# Altium footprint library Transistor-Fotprint.PcbLib: 27 footprints (part 2 of 2)
Each footprint in its own frame and in the unit in brackets; x right, y up, seen from the top. Pads: shape width x height; smd on the part's side, far side on the other; paste and mask are expansions set on the pad; w line width, h text height; cw(c..) or ccw(c..) is an arc to the next point about the centre after c.
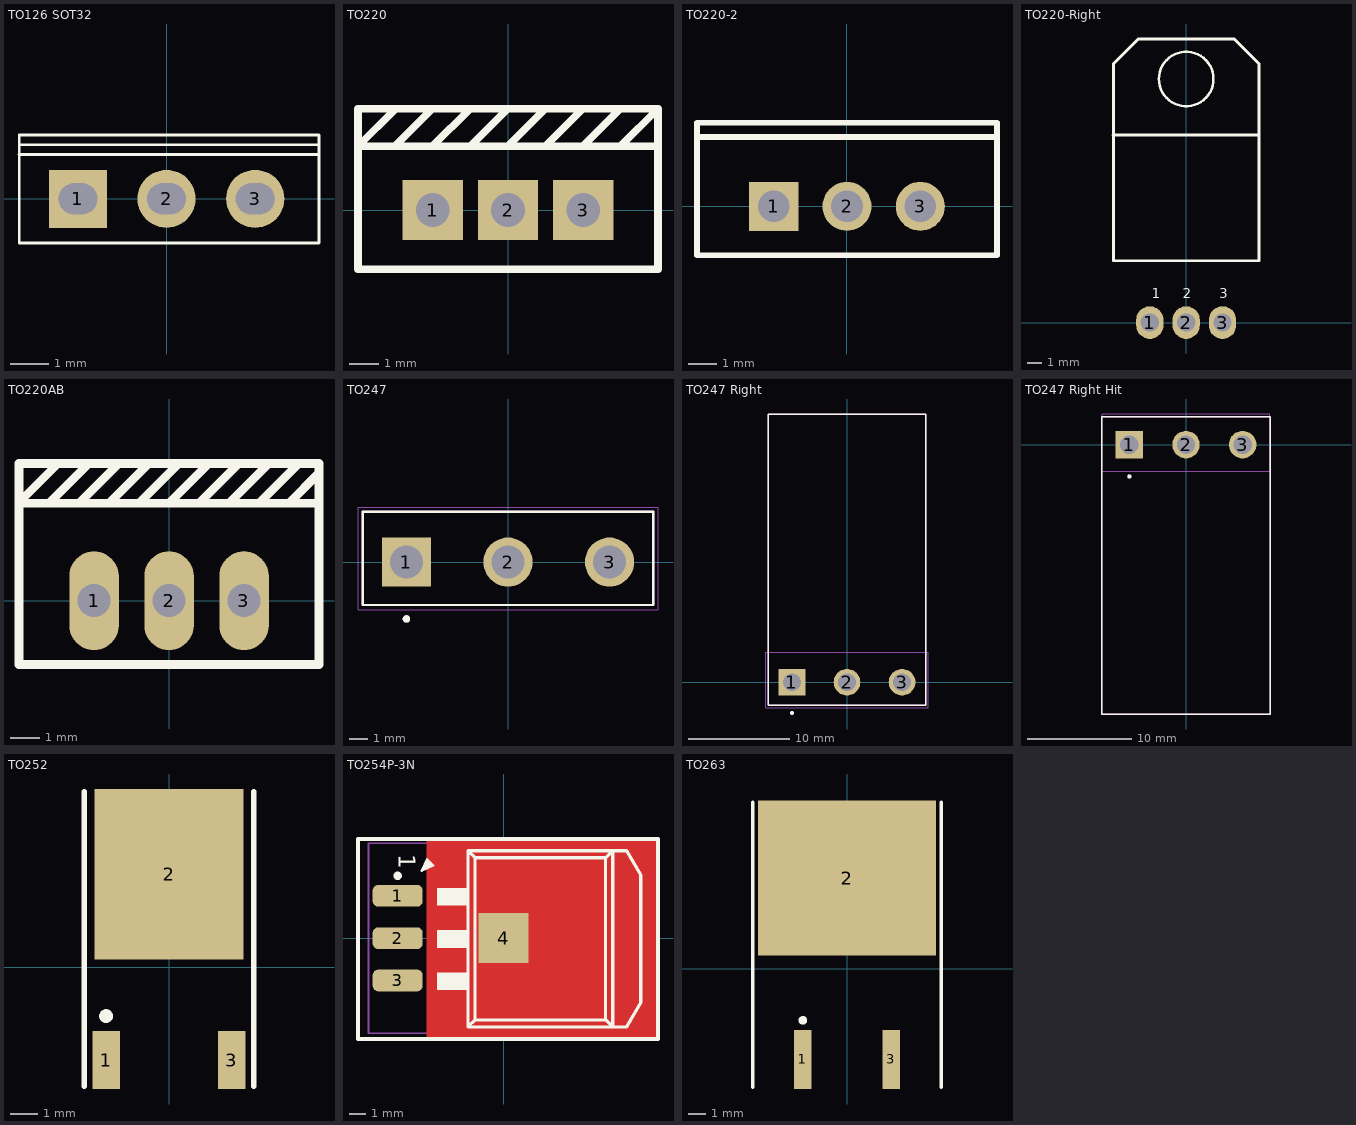
[diagram p1: the footprints below, top view; thin cyan lines are the x and y axes]

## TO126 SOT32 [mm]
height 16
pads (3):
  rect 1.5x1.5 hole 0.8 slot 1 at 0 deg: 1(-2.29,0)
  round 1.5 hole 0.8 slot 1 at 0 deg: 2(0,0) 3(2.29,0)
Top Overlay:
  lines w0.07: -3.81,1.143 3.937,1.143 3.937,1.651 ; -3.8,1.397 3.937,1.397 ; 3.937,1.651 -3.8,1.651 -3.8,-1.143 3.937,-1.143 3.937,1.651
3D body "User Library-TO-126 (SOT32) Gold PCB.STEP": height 13.19, standoff -3.54, extent -3.8,-1 3.8,1.55

## TO220 [mil]
pads (3):
  rect 80x80 hole 45: 1(-100,0) 2(0,0) 3(100,0)
Top Overlay:
  lines w10: -150.5,85 -100.5,135 ; -149.5,135 -199.5,85 ; -100.5,85 -50.5,135 ; -50.5,85 -0.5,135 ; -0.5,85 49.5,135 ; 49.5,85 99.5,135 ; 99.5,85 149.5,135 ; 149.5,85 199.5,135 ; -199.5,85 -199.5,-78.74 199.5,-78.74 199.5,85 ; -199.5,85 199.5,85 ; -199.5,85 -199.5,135 199.5,135 ; 199.5,85 199.5,135
3D body "User Library-TO-220-4.STEP": height 789.77, standoff -344.09, extent -200.78,-68.89 200.79,108.27

## TO220-2 [mm]
pads (3):
  rect 1.7x1.7 hole 1.1: 1(-2.54,0)
  round 1.7 hole 1.1: 2(0,0) 3(2.54,0)
Top Overlay:
  lines w0.2: -5.2,2.4 5.2,2.4 ; -5.2,-1.7 5.2,-1.7 5.2,2.9 -5.2,2.9 -5.2,-1.7
3D body "TO220.STEP": height 21.33, standoff -8, extent -5.606,-1.495 5.607,3.195

## TO220-Right [mil]
pads (3):
  oval 75x90 hole 50: 1(-100,0) 2(0,0) 3(100,0)
Top Overlay:
  circle w7: c0,670 r75
  lines w7.87: -201,516.22 199,516.22 ; -200,170 200,170 200,712 132,780 -132,780 -200,712 -200,578.74 -200,170
  text "1" at -95,66.93 h27.56
  text "3" at 91,66.93 h27.56
  text "2" at -10,66.93 h27.56
3D body "78XXCV.STEP": height 175, standoff -112.5, extent -198,-8 202,776

## TO220AB [mil]
pads (3):
  oval 66x132 hole 44: 1(-100,0) 2(0,0) 3(100,0)
Top Overlay:
  lines w11.81: -160,130 -108,182 ; -148,183 -200,131 -200,130 ; -120,130 -68,182 ; -80,130 -28,182 ; -40,130 12,182 ; 0,130 52,182 ; 40,130 92,182 ; 80,130 132,182 ; 120,130 172,182 ; 160,130 198.5,168.5 ; -200,130 -200,-85 200,-85 200,130 ; -200,130 200,130 ; -200,130 -200,183 200,183 200,130
3D body "SW3DPS-TO-220HS-DEFAULT.STEP": height 730, standoff -150, extent -200,-54.99 200,125

## TO247 [mm]
pads (3):
  rect 2.64x2.64 hole 1.76: 1(-5.45,0)
  round 2.64 hole 1.76: 2(0,0) 3(5.45,0)
Top Overlay:
  circle w0.2: c-5.45,-3.05 r0.1
  lines w0.127: -7.8,-2.3 7.8,-2.3 7.8,2.7 -7.8,2.7 -7.8,-2.3
Mechanical 13:
  circle w0.2: c-5.45,-3.05 r0.1
  lines w0.127: -7.8,-2.3 7.8,-2.3 7.8,2.7 -7.8,2.7 -7.8,-2.3
Mechanical 15:
  lines w0.05: -8.05,-2.55 8.05,-2.55 8.05,2.95 -8.05,2.95 -8.05,-2.55
3D body "step_temp.STEP": height 27.48, standoff -7.62, extent -7.8,-2.3 7.8,2.7

## TO247 Right [mm]
pads (3):
  rect 2.64x2.64 hole 1.76: 1(-5.45,0)
  round 2.64 hole 1.76: 2(0,0) 3(5.45,0)
Top Overlay:
  circle w0.2: c-5.45,-3.05 r0.1
  lines w0.127: -7.8,-2.3 -7.8,26.543 7.8,26.543 7.8,-2.3 -7.8,-2.3
Mechanical 13:
  circle w0.2: c-5.45,-3.05 r0.1
  lines w0.127: -7.8,-2.3 -7.8,26.543 7.8,26.543 7.8,-2.3 -7.8,-2.3
Mechanical 15:
  lines w0.05: -8.05,-2.55 -8.05,2.95 8.05,2.95 8.05,-2.55 -8.05,-2.55
3D body "User Library-TO-247_bent_leads.step": height 3.41, standoff -8.59, extent -7.95,-0.381 7.95,26.601

## TO247 Right Hit [mm]
pads (3):
  rect 2.64x2.64 hole 1.76: 1(-5.45,0)
  round 2.64 hole 1.76: 2(0,0) 3(5.45,0)
Top Overlay:
  circle w0.2: c-5.45,-3.05 r0.1
  lines w0.127: -8.128,-25.908 -8.128,2.7 8.128,2.7 8.128,-25.908 -8.128,-25.908
Mechanical 13:
  circle w0.2: c-5.45,-3.05 r0.1
  lines w0.127: -8.128,-25.908 -8.128,2.7 8.128,2.7 8.128,-25.908 -8.128,-25.908
Mechanical 15:
  lines w0.05: -8.05,-2.55 8.05,-2.55 8.05,2.95 -8.05,2.95 -8.05,-2.55
3D body "User Library-TO-247 CASE 340L-02 Horizontal Bottom.STEP": height 6.61, standoff -11.69, extent -8,-25.55 8,0.35

## TO252 [mm]
pads (3):
  rect 1x2.1 smd: 1(-2.285,-3.375) 3(2.285,-3.375)
  rect 5.4x6.2 smd: 2(0,3.375)
Top Overlay:
  circle w0.25: c-2.285,-1.775 r0.125
  lines w0.2: -3.085,-4.325 -3.085,6.375 ; 3.085,-4.325 3.085,6.375
3D body "User Library-DPAK-1.step": height 2.39, standoff -0.02, extent -3.27,-4.111 3.27,5.828

## TO254P-3N [mm]
pads (4):
  rrect50% 3x1.3 smd: 1(-6.35,2.54) 2(-6.35,0) 3(-6.35,-2.54)
  rect 3x3 smd: 4(0,0)
Top Layer:
  region: -4.634,5.949 -4.634,-6.051 9.258,-6.051 9.258,5.949
Top Overlay:
  circle w0.25: c-6.35,3.742 r0.125
  region: -3.988,0.483 -3.988,-0.584 -2.108,-0.584 -2.108,0.483
  region: -3.988,-2.057 -3.988,-3.124 -2.108,-3.124 -2.108,-2.057
  region: -3.988,3.022 -3.988,1.956 -2.108,1.956 -2.108,3.022
  lines w0.127: -4.919,4.028 -4.4,4.547 ; -4.919,4.028 -4.589,4.739 -4.4,4.547 ; -4.919,4.028 -4.208,4.358 -4.4,4.547
  lines w0.178: -4.716,4.383 -4.538,4.561 ; -4.564,4.231 -4.386,4.409
  lines w0.2: -2.134,-5.329 -1.71,-4.906 ; -2.134,-5.329 6.545,-5.329 ; -2.134,-5.329 -2.134,5.254 ; -2.134,5.254 -1.71,4.831 ; -2.134,5.254 6.545,5.254 ; -1.71,-4.906 -1.71,4.831 ; -1.71,-4.906 6.121,-4.906 ; -1.71,4.831 6.121,4.831 ; 6.121,-4.906 6.545,-5.329 ; 6.121,-4.906 6.121,4.831 ; 6.121,4.831 6.545,5.254 ; 6.545,-5.329 7.366,-5.329 8.238,-3.847 8.238,3.773 7.366,5.254 6.545,5.254 ; 6.545,-5.329 6.545,5.254
  lines w0.254: -8.731,-6.051 -8.731,5.949 9.269,5.949 9.269,-6.051 -8.731,-6.051
  text "1" at -6.299,5.026 h1
Top Paste:
  region: -0.431,3.773 -0.431,-3.847 7.595,-3.847 7.595,3.773
Top Solder:
  region: -2.413,5.505 -2.413,-5.621 8.179,-5.621 8.179,5.505
  lines w0.254: 8.554,-3.938 8.131,-5.419 ; 8.554,3.863 8.131,5.344 ; -2.462,-5.329 ccw(c-2.134,-5.329) -2.134,-5.658 ; -2.462,-5.329 ccw(c-2.134,-5.329) -2.134,-5.658 ; -2.462,-5.329 -2.462,5.254 ; -2.462,5.254 cw(c-2.134,5.254) -2.134,5.583 ; -2.462,5.254 cw(c-2.134,5.254) -2.134,5.583 ; -2.134,-5.658 6.545,-5.658 7.815,-5.658 ; -2.134,5.583 6.545,5.583 7.815,5.583 ; 7.815,-5.658 ccw(c7.815,-5.329) 8.131,-5.42 ; 7.815,-5.658 ccw(c7.815,-5.329) 8.131,-5.42 ; 7.815,5.583 cw(c7.815,5.254) 8.131,5.345 ; 7.815,5.583 cw(c7.815,5.254) 8.131,5.345 ; 8.567,-3.847 cw(c8.238,-3.847) 8.554,-3.938 ccw(c8.238,-3.847) 8.567,-3.847 ; 8.567,-3.847 8.567,3.773 ; 8.567,3.773 ccw(c8.238,3.773) 8.554,3.863 cw(c8.238,3.773) 8.567,3.773
  lines w0.508: 8.196,-4.669 8.196,4.577
Mechanical 13:
  lines w0.1: -2.675,-4.985 6.475,-4.985 6.475,4.985 -2.675,4.985 -2.675,-4.985
Mechanical 15:
  lines w0.1: -0.5,0 0.5,0 ; 0,-0.5 0,0.5 ; -8.1,-5.7 8.1,-5.7 8.1,5.7 -8.1,5.7 -8.1,-5.7
3D body "254-3.STEP": height 2.53, standoff -0.02, extent -7.339,-5.087 8.101,5.08

## TO263 [mm]
pads (3):
  rect 1x3.4 smd: 1(-2.54,-5.225) 3(2.54,-5.225)
  rect 10.25x8.9 smd: 2(0,5.225)
Top Overlay:
  circle w0.25: c-2.54,-2.975 r0.125
  lines w0.2: -5.425,-6.825 -5.425,9.575 ; 5.425,-6.825 5.425,9.575
3D body "D2PAK.STEP": height 4.68, standoff -0.12, extent -5.047,-6.311 4.953,9.359